# EAGLE library part REG_AS1337 (library akita)
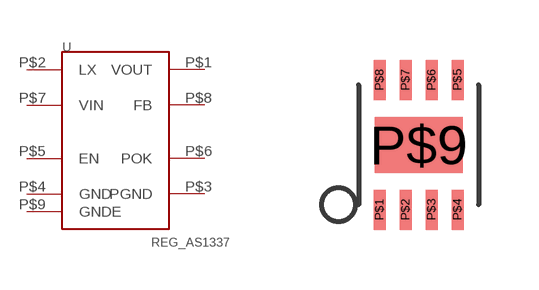
[diagram p109: symbol with the pads of TDFN8_065MM; footprint TDFN8_065MM]

Designator prefix -

## REG_AS1337  [TDFN8_065MM]
P$1  VOUT
P$2  LX
P$3  PGND
P$4  GND
P$5  EN
P$6  POK
P$7  VIN
P$8  FB
P$9  GNDE

## Footprint TDFN8_065MM (pad centres in mm)
smd 0.3 x 1: P$1 -0.975,-1.625; P$2 -0.325,-1.625; P$3 0.325,-1.625; P$4 0.975,-1.625; P$5 0.975,1.625; P$6 0.325,1.625; P$7 -0.325,1.625; P$8 -0.975,1.625
smd 2.2 x 1.4: P$9 0,0